# EAGLE library part TPD6S300 (library texas-usbc)
TPD6S300 USB Type-CTM Port Protector: Short-to-VBUS Overvoltage and IEC ESD Protection • 4-Channels of Short-to-VBUS Overvoltage Protection (CC1, CC2, SBU1, SBU2): 24-VDC Tolerant • 6-Channels of IEC 61000-4-2 ESD Protection (CC1, CC2, SBU1, SBU2, DP, DM) • CC1, CC2 Overvoltage Protection FETs 600 mA capable for passing VCONN power • CC Dead Battery Resistors integrated for handling dead battery use case in mobile devices • 3-mm × 3-mm WQFN Package
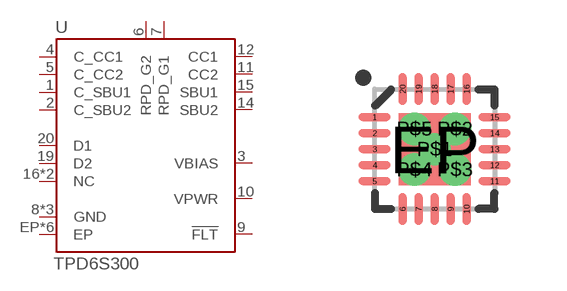
[diagram p0: symbol with the pads of WQFN-20; footprint WQFN-20]

Designator prefix U

## TPD6S300  [WQFN-20]
1  C_SBU1
2  C_SBU2
3  VBIAS
4  C_CC1
5  C_CC2
6  RPD_G2
7  RPD_G1
8  GND
9  !FLT
10  VPWR
11  CC2
12  CC1
13  GND
14  SBU2
15  SBU1
16  NC
17  NC
18  GND
19  D2
20  D1
EP  EP
P$1  EP
P$2  EP
P$3  EP
P$4  EP
P$5  EP

## Footprint WQFN-20 (pad centres in mm)
WQFN - 20 Pin Specifications: Pin count: 20 Datasheet referenced for footprint <http://www.ti.com/lit/ds/symlink/lp55231.pdf> Example device(s): LP55231
smd 0.8 x 0.2: 1 -1.5,0.8; 2 -1.5,0.4; 3 -1.5,0; 4 -1.5,-0.4; 5 -1.5,-0.8; 11 1.5,-0.8; 12 1.5,-0.4; 13 1.5,0; 14 1.5,0.4; 15 1.5,0.8
smd 0.2 x 0.8: 6 -0.8,-1.5; 7 -0.4,-1.5; 8 0,-1.5; 9 0.4,-1.5; 10 0.8,-1.5; 16 0.8,1.5; 17 0.4,1.5; 18 0,1.5; 19 -0.4,1.5; 20 -0.8,1.5
smd 1.8 x 1.8: EP 0,0
drill 0.3 pad 0.406: P$1 0,0; P$2 0.508,0.508; P$3 0.508,-0.508; P$4 -0.508,-0.508; P$5 -0.508,0.508